# Altium footprint library TMP_SNSR(2.3-5.5V, Analog, 10mV°C, SC-70-5.PcbLib: 3 footprints
Each footprint in its own frame and in the unit in brackets; x right, y up, seen from the top. Pads: shape width x height; smd on the part's side, far side on the other; paste and mask are expansions set on the pad; w line width, h text height; cw(c..) or ccw(c..) is an arc to the next point about the centre after c.
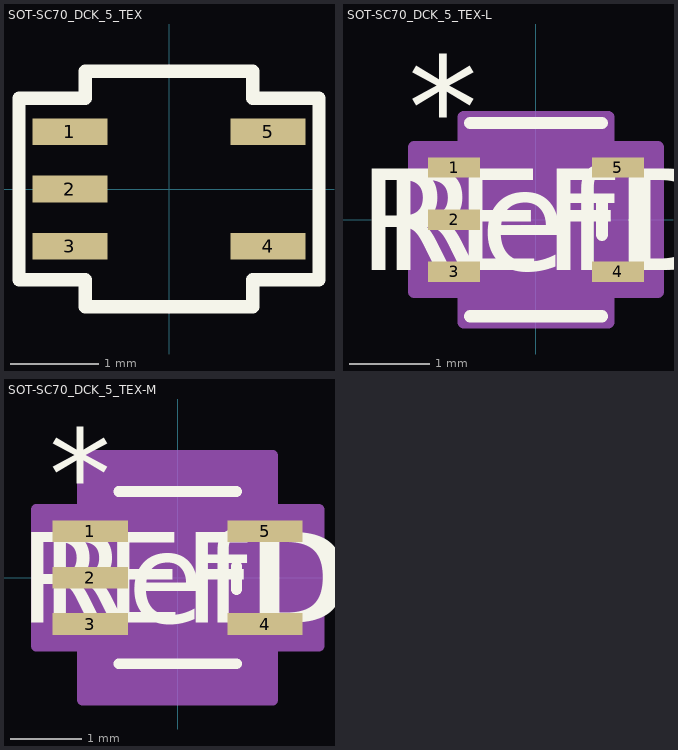
[diagram p0: the footprints below, top view; thin cyan lines are the x and y axes]

## SOT-SC70_DCK_5_TEX [mil]
pads (5):
  rect 33.5x12 smd paste+0 mask+0: 1(-44.25,25.59) 2(-44.25,0) 3(-44.25,-25.59) 4(44.25,-25.59) 5(44.25,25.59)
Top Overlay:
  lines w6: -67,-40.59 -37.5,-40.59 -37.5,-52.5 37.5,-52.5 37.5,-40.59 67,-40.59 67,40.59 37.5,40.59 37.5,52.5 -37.5,52.5 -37.5,40.59 -67,40.59 -67,-40.59
3D body "TMP235A2DCKR.step": height 43.31, standoff 0, extent -41.34,-39.37 41.34,39.37

## SOT-SC70_DCK_5_TEX-L [mil]
pads (5):
  rect 25.5x10 smd paste+0 mask+0: 1(-40.25,25.59) 2(-40.25,0) 3(-40.25,-25.59) 4(40.25,-25.59) 5(40.25,25.59)
Top Overlay:
  lines w6: -32.5,-47.5 32.5,-47.5 ; -32.5,47.5 32.5,47.5 ; 32.5,-7.49 32.5,7.49
  text "REFDES" at -87.5,-25 h50
  text "*" at -62.75,30.59 h50
  text "RefDes" at -75,-25 h50
Mechanical 13:
  lines w0: -12,42.5 ccw(c0,42.5) 12,42.5
  lines w1: -47,-31.59 -47,-19.59 -27.5,-19.59 -27.5,-31.59 -47,-31.59 ; -47,-6 -47,6 -27.5,6 -27.5,-6 -47,-6 ; -47,19.59 -47,31.59 -27.5,31.59 -27.5,19.59 -47,19.59 ; -27.5,-42.5 27.5,-42.5 27.5,42.5 -27.5,42.5 -27.5,-42.5 ; 27.5,-31.59 27.5,-19.59 47,-19.59 47,-31.59 27.5,-31.59 ; 27.5,19.59 27.5,31.59 47,31.59 47,19.59 27.5,19.59
  text "*" at -30,-12.41 h50
  text "RefDes2" at -87.5,-25 h50
Mechanical 15:
  region: 35.5,-50.5 -35.5,-50.5 -35.5,-35.59 -60,-35.59 -60,35.59 -35.5,35.59 -35.5,50.5 35.5,50.5 35.5,35.59 60,35.59 60,-35.59 35.5,-35.59
  lines w6: -60,-35.59 -35.5,-35.59 -35.5,-50.5 35.5,-50.5 35.5,-35.59 60,-35.59 60,35.59 35.5,35.59 35.5,50.5 -35.5,50.5 -35.5,35.59 -60,35.59 -60,-35.59
3D body "SOT-SC70_DCK_5_TEX.step": height 43.11, standoff 0, extent -47.01,-42.52 47.01,42.52

## SOT-SC70_DCK_5_TEX-M [mil]
pads (5):
  rect 41.5x12 smd paste+0 mask+0: 1(-48.25,25.59) 2(-48.25,0) 3(-48.25,-25.59) 4(48.25,-25.59) 5(48.25,25.59)
Top Overlay:
  lines w6: -32.5,-47.5 32.5,-47.5 ; -32.5,47.5 32.5,47.5 ; 32.5,-6.49 32.5,6.49
  text "REFDES" at -87.5,-25 h50
  text "*" at -70.75,32.59 h50
  text "RefDes" at -75,-25 h50
Mechanical 13:
  lines w0: -12,42.5 ccw(c0,42.5) 12,42.5
  lines w1: -47,-31.59 -47,-19.59 -27.5,-19.59 -27.5,-31.59 -47,-31.59 ; -47,-6 -47,6 -27.5,6 -27.5,-6 -47,-6 ; -47,19.59 -47,31.59 -27.5,31.59 -27.5,19.59 -47,19.59 ; -27.5,-42.5 27.5,-42.5 27.5,42.5 -27.5,42.5 -27.5,-42.5 ; 27.5,-31.59 27.5,-19.59 47,-19.59 47,-31.59 27.5,-31.59 ; 27.5,19.59 27.5,31.59 47,31.59 47,19.59 27.5,19.59
  text "*" at -30,-10.41 h50
  text "RefDes2" at -87.5,-25 h50
Mechanical 15:
  region: 52.5,-67.5 -52.5,-67.5 -52.5,-37.59 -78,-37.59 -78,37.59 -52.5,37.59 -52.5,67.5 52.5,67.5 52.5,37.59 78,37.59 78,-37.59 52.5,-37.59
  lines w6: -78,-37.59 -52.5,-37.59 -52.5,-67.5 52.5,-67.5 52.5,-37.59 78,-37.59 78,37.59 52.5,37.59 52.5,67.5 -52.5,67.5 -52.5,37.59 -78,37.59 -78,-37.59
3D body "SOT-SC70_DCK_5_TEX.step": height 43.11, standoff 0, extent -47.01,-42.52 47.01,42.52